# Altium footprint library Switch.PcbLib: 3 footprints
Each footprint in its own frame and in the unit in brackets; x right, y up, seen from the top. Pads: shape width x height; smd on the part's side, far side on the other; paste and mask are expansions set on the pad; w line width, h text height; cw(c..) or ccw(c..) is an arc to the next point about the centre after c.
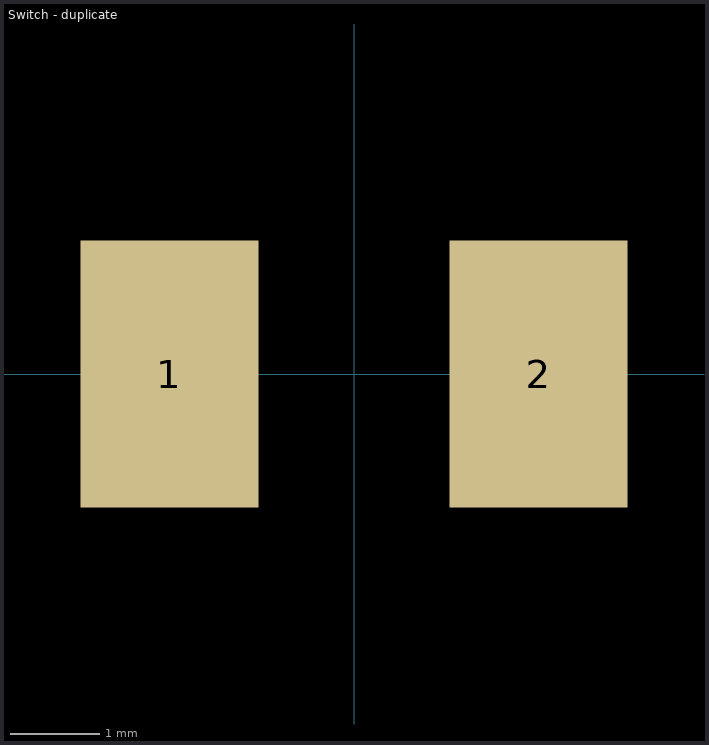
[diagram p0: the footprints below, top view; thin cyan lines are the x and y axes]

## PCBComponent_1 [mm]

## Switch [mm]

## Switch - duplicate [mm]
pads (2):
  rect 2x3 smd: 1(-2.075,0) 2(2.075,0)
3D body "skrpace010.stp": height 2.5, standoff 0, extent -2.3,-1.6 2.3,1.6